# Altium footprint library Q.PcbLib: 19 footprints (part 2 of 2)
Each footprint in its own frame and in the unit in brackets; x right, y up, seen from the top. Pads: shape width x height; smd on the part's side, far side on the other; paste and mask are expansions set on the pad; w line width, h text height; cw(c..) or ccw(c..) is an arc to the next point about the centre after c.
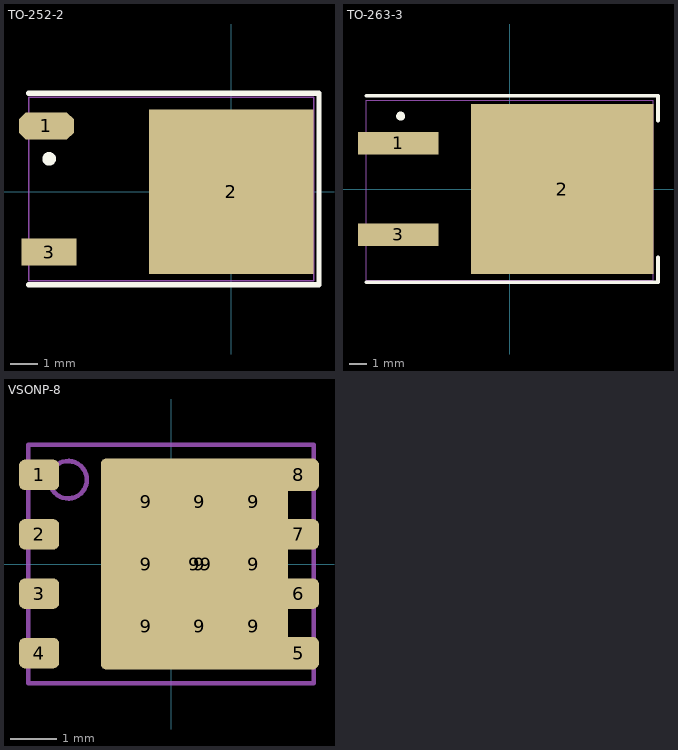
[diagram p1: the footprints below, top view; thin cyan lines are the x and y axes]

## TO-252-2 [mm] "DPAK"
height 1.2
pads (3):
  oct 2x1 smd: 1(-6.75,2.4)
  rect 6x6 smd: 2(0,0)
  rect 2x1 smd: 3(-6.65,-2.2)
Top Overlay:
  circle w0.25: c-6.65,1.2 r0.125
  lines w0.2: -7.4,-3.4 3.2,-3.4 3.2,3.6 -7.4,3.6
Mechanical 3:
  text ".Designator" at -7.25,4.2 h0.5
Mechanical 15:
  lines w0.05: -7.4,-3.25 -7.4,3.45 3,3.45 3,-3.25 -7.4,-3.25
  lines w0.1: -0.455,0 0.545,0 ; 0.045,-0.5 0.045,0.5
3D body "TO-252AA-IRF.stp": height 2.39, standoff 0, extent -7.407,-3.256 3.007,3.456

## TO-263-3 [mm] "D2PAK"
height 1.2
pads (3):
  rect 4.5x1.25 smd: 1(-6.223,2.54) 3(-6.223,-2.54)
  rect 10.16x9.5 smd: 2(2.921,0)
Top Overlay:
  circle w0.25: c-6.096,4.064 r0.125
  lines w0.2: -8.015,-5.207 8.255,-5.207 8.255,-3.81 ; -8.015,5.207 8.255,5.207 8.255,3.81
Mechanical 3:
  text ".Designator" at -7.85,5.65 h0.5
Mechanical 15:
  lines w0.05: -8.001,-5.08 8.001,-5.08 8.001,4.953 -8.001,4.953 -8.001,-5.08
  lines w0.1: -0.505,0 0.495,0 ; -0.005,-0.5 -0.005,0.5
3D body "to-263.STEP": height 4.3, standoff 0, extent -7.94,-5.047 7.94,4.953

## VSONP-8 [mm] "SON, 8-Leads, Body 5x6mm"
height 1.05
pads (23):
  rrect39% 0.86x0.65 smd paste-0.05 mask-0.05: 1(-2.82,1.905) 2(-2.82,0.635) 3(-2.82,-0.635) 4(-2.82,-1.905) 6(2.73,-0.635) 7(2.73,0.635)
  rrect39% 0.86x0.7 smd paste-0.05 mask-0.05: 5(2.73,-1.905) 8(2.73,1.905)
  rrect40% 0.25x0.555 on Top Paste: 9(-0.83,-2.372) 9(-0.83,2.372)
  rrect40% 0.25x0.555 on Top Solder: 9(-0.83,-2.372) 9(-0.83,2.372)
  rrect11% 0.95x1.13 on Top Paste: 9(-0.535,-1.33) 9(-0.535,0) 9(-0.535,1.33) 9(0.615,-1.33) 9(0.615,0) 9(0.615,1.33) 9(1.765,-1.33) 9(1.765,0) 9(1.765,1.33)
  rrect5% 4x4.5 smd paste-3 mask-3: 9(0.5,0)
  rrect3% 3.58x4 on Top Solder: 9(0.75,0)
Top Solder:
  rectangle: -0.955,1.98 -0.705,2.16
  rectangle: -0.955,-2.16 -0.705,-1.98
Mechanical 5:
  circle w0.1: c-2.2,1.8 r0.4
  lines w0.1: -3.05,-2.55 -3.05,2.55 3.05,2.55 3.05,-2.55 -3.05,-2.55
  text ".Designator" at -1.524,-0.508 h1.02
3D body: height 1.05, standoff 0, extent -3.05,-2.55 3.05,2.55
3D body: height 1.06, standoff 1.05, extent -2.599,1.401 -1.801,2.199